# EAGLE library part HFW8 (library RoboJackets-Connectors)
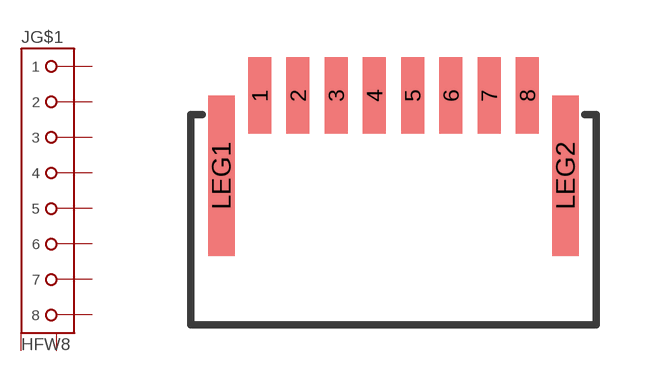
[diagram p0: symbol with the pads of HFW8R-1ST; footprint HFW8R-1ST]

Designator prefix J; gates G$1=8-PIN_CONN G$2=LEGS

## HFW8R-1ST (DIGIKEY: 609-1788-1-ND; MPN: HFW8R-1STE1LF)  [HFW8R-1ST]
1  G$1:1  pas
2  G$1:2  pas
3  G$1:3  pas
4  G$1:4  pas
5  G$1:5  pas
6  G$1:6  pas
7  G$1:7  pas
8  G$1:8  pas
LEG1  G$2:LEG1  pas
LEG2  G$2:LEG2  pas

## Footprint HFW8R-1ST (pad centres in mm)
smd 0.6 x 2: 1 -3.5,3.25; 2 -2.5,3.25; 3 -1.5,3.25; 4 -0.5,3.25; 5 0.5,3.25; 6 1.5,3.25; 7 2.5,3.25; 8 3.5,3.25
smd 0.7 x 4.2: LEG1 -4.5,1.15; LEG2 4.5,1.15